# Altium footprint library FAN3223CMX.PcbLib: 1 footprints
Each footprint in its own frame and in the unit in brackets; x right, y up, seen from the top. Pads: shape width x height; smd on the part's side, far side on the other; paste and mask are expansions set on the pad; w line width, h text height; cw(c..) or ccw(c..) is an arc to the next point about the centre after c.
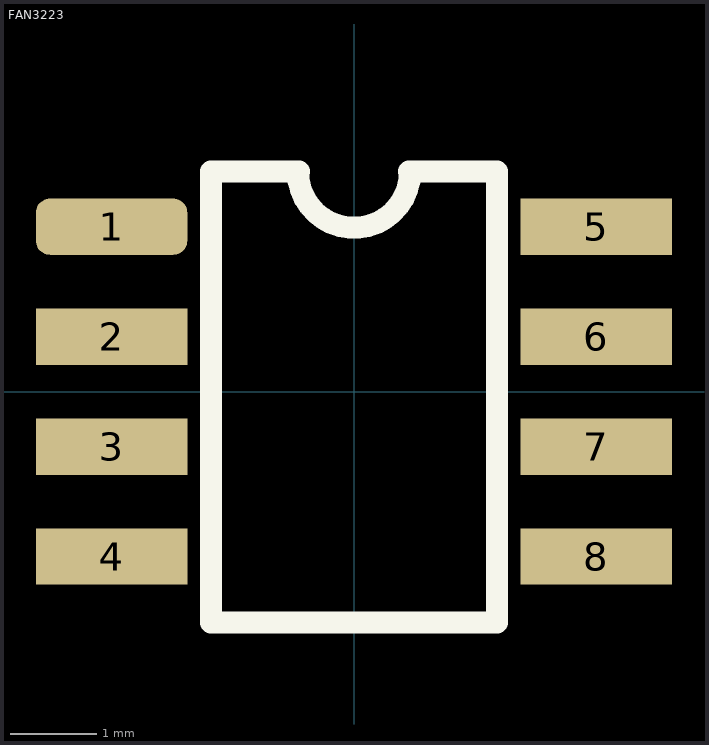
[diagram p0: the footprint, top view; thin cyan lines are the x and y axes]

## FAN3223 [mm] "Gate Driver P Channel"
pads (8):
  rrect50% 1.75x0.65 smd: 1(-2.8,1.905)
  rect 1.75x0.65 smd: 2(-2.8,0.635) 3(-2.8,-0.635) 4(-2.8,-1.905) 5(2.8,1.905) 6(2.8,0.635) 7(2.8,-0.635) 8(2.8,-1.905)
Top Overlay:
  lines w0.254: -0.648,2.54 ccw(c0,2.54) 0.648,2.54 ; -0.635,2.54 -1.651,2.54 -1.651,-2.667 1.651,-2.667 1.651,2.54 0.635,2.54
3D body "FAN3223CMX.stp": height 1.75, standoff 0, extent -3,-2.45 3,2.45